# Altium integrated library Linear Technology Power Management PMIC Multifunction.IntLib: 360 symbols (part 38 of 42)
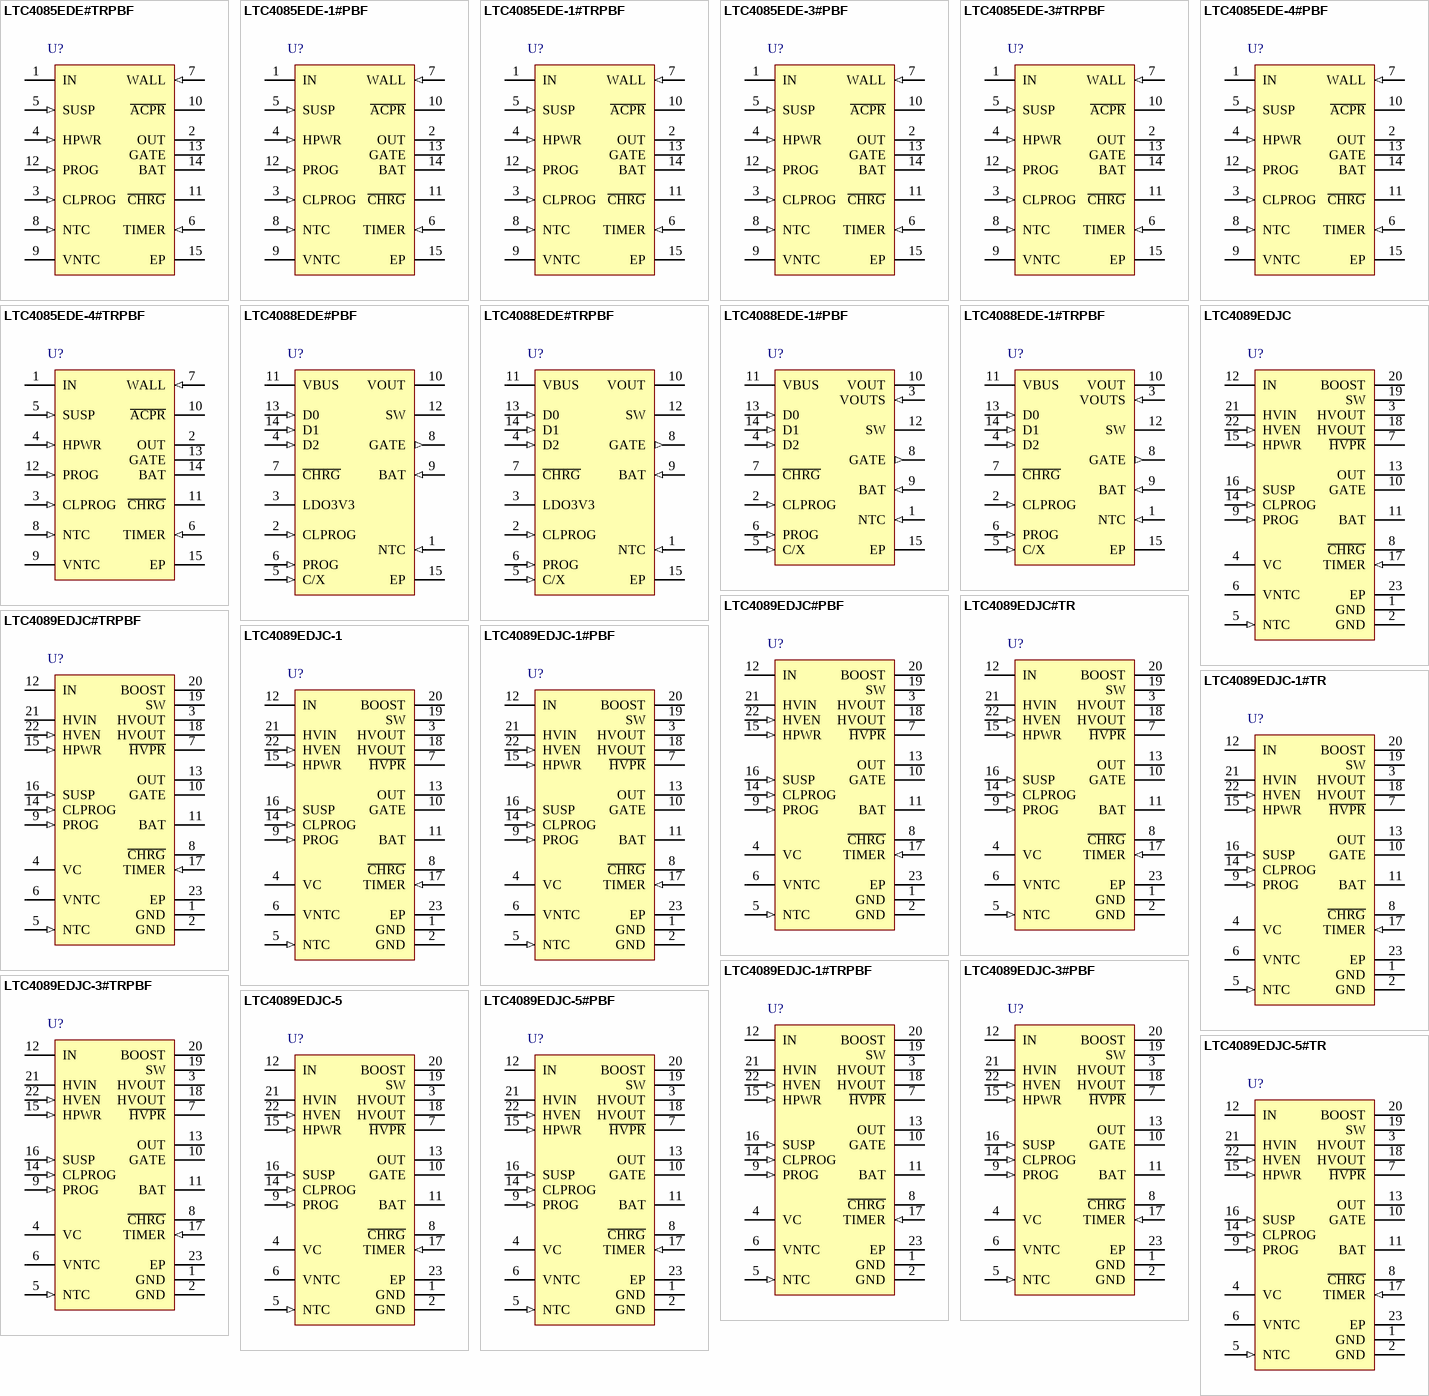
[diagram p55: symbols LTC4085EDE#TRPBF to LTC4089EDJC-5#TR]

## LTC4085EDE-4#PBF
designator U?
USB Power Manager with Ideal Diode Controller and 3.95 V Li-Ion Charger, 32.6% Vvntc, No Undervoltage Current Limit, 4.35 to 5.5 V Vin, 14-pin SON (DE-14), -40 to 85 degC, Pb-Free; Manufacturer: Linear Technology; PartNumber: LTC4085EDE-4#PBF; Number of Cells: 1; Vin Max(V): 5.5; Vin Min(V): 4.35; DatasheetVersion: Rev. B; PackageVersion: Rev. B, 06/2010; PackageReference: DE-14; PackageDescription: 14-Pin Plastic DFN, Body 4 x 3 mm, Pitch 0.5 mm; Supplier 1: Digi-Key; Supplier Part Number 1: LTC4085EDE-4#PBF-ND; Number of Outputs: 1; RoHS: TRUE; Mounting Technology: Surface Mount; Code_JEDEC: MO-229; ComponentLink1Description: Manufacturer URL; ComponentLink1URL: http://www.linear.com/; ComponentLink2Description: Datasheet; ComponentLink2URL: http://cds.linear.com/docs/en/datasheet/408534fb.pdf; ComponentLink3Description: Package Specification; ComponentLink3URL: http://www.linear.com/docs/en/packaging/DFN_14_05-08-1708.pdf
footprint LT-DE-14_V (SON, 14-Leads, Body 4x3mm, Pitch 0.5mm, Thermal Pad 3.3x1.7mm)
pins: 1 IN (power) "Input Supply. Connect to USB supply, VBUS. Input current to this pin is limited to either 20% or 100%  of the current programmed by the CLPROG pin as determined by the state of the HPWR pin. Charge current (to  BAT pin) (See Datasheet)", 2 OUT (power) "Voltage Output. This pin is used to provide  controlled power to a USB device from either USB VBUS (IN) or the battery (BAT) when the USB is not present. This  pin can also be used as an input for battery charging when  the (See Datasheet)", 3 CLPROG (in) "Current Limit Program and Input Current Monitor. Connecting a resistor, RCLPROG, to ground  programs the input to output current limit.", 4 HPWR (in) "High Power Select. This logic input is used  to control the input current limit. A voltage greater than  1.2V on the pin will set the input current limit to 100% of  the current programmed by the CLPROG pin. A voltage  less (See Datasheet)", 5 SUSP (in) "Suspend Mode Input. Pulling this pin above  1.2V will disable the power path from IN to OUT. The supply current from IN will be reduced to comply with the  USB specfication for suspend mode. Both the ability to  charge the (See Datasheet)", 6 TIMER (in) "Timer Capacitor. Placing a capacitor, CTIMER,  to GND sets the timer period.", 7 WALL (in) "Wall Adapter Present Input. Pulling this pin above 4.25V will disconnect the power path from IN to OUT. The A\C\P\R\ pin will also be pulled low to indicate that a wall adapter has been detected.", 8 NTC (in) "Input to the NTC Thermistor Monitoring Circuits. The NTC pin connects to a negative temperature coeffcient thermistor which is typically co-packaged with the battery pack to determine if the battery is too hot or too cold to (See Datasheet)", 9 VNTC "Output Bias Voltage for NTC. A resistor from this pin to the NTC pin will bias the NTC thermistor.", 10 ~{ACPR} (hiz) "Wall Adapter Present Output. Active low  open drain output pin. A low on this pin indicates that the wall adapter input comparator has had its input pulled above the input threshold. This feature is disabled if no power is (See Datasheet)", 11 ~{CHRG} (hiz) "Open-Drain Charge Status Output. When the battery is being charged, the C\H\R\G\ pin is pulled low by an internal N-channel MOSFET. When the timer runs out or the charge current drops below 10% of the programmed charge (See Datasheet)", 12 PROG (in) "Charge Current Program. Connecting a resistor, RPROG, to ground programs the battery charge  current.", 13 GATE (hiz) "External Ideal Diode Gate Pin. This pin can be used to drive the gate of an optional external  PFET connected between BAT and OUT. By doing so, the impedance of the ideal diode between BAT and OUT can be reduced. When not in (See Datasheet)", 14 BAT (power) "Connect to a single cell Li-Ion battery. This  pin is used as an output when charging the battery and as an input when supplying power to OUT. When the OUT pin potential drops below the BAT pin potential, an ideal diode (See Datasheet)", 15 EP (power) "Ground. The exposed package pad is electrical ground and must be soldered to the PC board for proper functionality and rated thermal performance."

## LTC4085EDE-4#TRPBF
designator U?
USB Power Manager with Ideal Diode Controller and 3.95 V Li-Ion Charger, 32.6% Vvntc, No Undervoltage Current Limit, 4.35 to 5.5 V Vin, 14-pin SON (DE-14), -40 to 85 degC, Pb-Free, Tape and Reel; Manufacturer: Linear Technology; PartNumber: LTC4085EDE-4#TRPBF; Number of Cells: 1; Vin Max(V): 5.5; Vin Min(V): 4.35; DatasheetVersion: Rev. B; PackageVersion: Rev. B, 06/2010; PackageReference: DE-14; PackageDescription: 14-Pin Plastic DFN, Body 4 x 3 mm, Pitch 0.5 mm; Supplier 1: Digi-Key; Supplier Part Number 1: LTC4085EDE-4#TRPBF-ND; Number of Outputs: 1; Packing: Tape and Reel; RoHS: TRUE; Mounting Technology: Surface Mount; Code_JEDEC: MO-229; ComponentLink1Description: Manufacturer URL; ComponentLink1URL: http://www.linear.com/; ComponentLink2Description: Datasheet; ComponentLink2URL: http://cds.linear.com/docs/en/datasheet/408534fb.pdf; ComponentLink3Description: Package Specification; ComponentLink3URL: http://www.linear.com/docs/en/packaging/DFN_14_05-08-1708.pdf
footprint LT-DE-14_V (SON, 14-Leads, Body 4x3mm, Pitch 0.5mm, Thermal Pad 3.3x1.7mm)
pins: 1 IN (power) "Input Supply. Connect to USB supply, VBUS. Input current to this pin is limited to either 20% or 100%  of the current programmed by the CLPROG pin as determined by the state of the HPWR pin. Charge current (to  BAT pin) (See Datasheet)", 2 OUT (power) "Voltage Output. This pin is used to provide  controlled power to a USB device from either USB VBUS (IN) or the battery (BAT) when the USB is not present. This  pin can also be used as an input for battery charging when  the (See Datasheet)", 3 CLPROG (in) "Current Limit Program and Input Current Monitor. Connecting a resistor, RCLPROG, to ground  programs the input to output current limit.", 4 HPWR (in) "High Power Select. This logic input is used  to control the input current limit. A voltage greater than  1.2V on the pin will set the input current limit to 100% of  the current programmed by the CLPROG pin. A voltage  less (See Datasheet)", 5 SUSP (in) "Suspend Mode Input. Pulling this pin above  1.2V will disable the power path from IN to OUT. The supply current from IN will be reduced to comply with the  USB specfication for suspend mode. Both the ability to  charge the (See Datasheet)", 6 TIMER (in) "Timer Capacitor. Placing a capacitor, CTIMER,  to GND sets the timer period.", 7 WALL (in) "Wall Adapter Present Input. Pulling this pin above 4.25V will disconnect the power path from IN to OUT. The A\C\P\R\ pin will also be pulled low to indicate that a wall adapter has been detected.", 8 NTC (in) "Input to the NTC Thermistor Monitoring Circuits. The NTC pin connects to a negative temperature coeffcient thermistor which is typically co-packaged with the battery pack to determine if the battery is too hot or too cold to (See Datasheet)", 9 VNTC "Output Bias Voltage for NTC. A resistor from this pin to the NTC pin will bias the NTC thermistor.", 10 ~{ACPR} (hiz) "Wall Adapter Present Output. Active low  open drain output pin. A low on this pin indicates that the wall adapter input comparator has had its input pulled above the input threshold. This feature is disabled if no power is (See Datasheet)", 11 ~{CHRG} (hiz) "Open-Drain Charge Status Output. When the battery is being charged, the C\H\R\G\ pin is pulled low by an internal N-channel MOSFET. When the timer runs out or the charge current drops below 10% of the programmed charge (See Datasheet)", 12 PROG (in) "Charge Current Program. Connecting a resistor, RPROG, to ground programs the battery charge  current.", 13 GATE (hiz) "External Ideal Diode Gate Pin. This pin can be used to drive the gate of an optional external  PFET connected between BAT and OUT. By doing so, the impedance of the ideal diode between BAT and OUT can be reduced. When not in (See Datasheet)", 14 BAT (power) "Connect to a single cell Li-Ion battery. This  pin is used as an output when charging the battery and as an input when supplying power to OUT. When the OUT pin potential drops below the BAT pin potential, an ideal diode (See Datasheet)", 15 EP (power) "Ground. The exposed package pad is electrical ground and must be soldered to the PC board for proper functionality and rated thermal performance."

## LTC4088EDE#PBF
designator U?
High Efficiency Battery Charger / USB Power Manager, 4.25 to 5.5 V Vin, 14-pin SON (DE-14), -40 to 85 degC, Pb-Free; Manufacturer: Linear Technology; PartNumber: LTC4088EDE#PBF; Number of Cells: 1; Vin Max(V): 5.5; Vin Min(V): 4.25; DatasheetVersion: Rev. B; PackageVersion: Rev. B, 06/2010; PackageReference: DE-14; PackageDescription: 14-Pin Plastic DFN, Body 4 x 3 mm, Pitch 0.5 mm; Supplier 1: Digi-Key; Supplier Part Number 1: LTC4088EDE#PBF-ND; Supplier 2: Newark; Supplier Part Number 2: 58M0945; Number of Outputs: 1; RoHS: TRUE; Mounting Technology: Surface Mount; Code_JEDEC: MO-229; ComponentLink1Description: Manufacturer URL; ComponentLink1URL: http://www.linear.com/; ComponentLink2Description: Datasheet; ComponentLink2URL: http://cds.linear.com/docs/en/datasheet/4088fb.pdf; ComponentLink3Description: Package Specification; ComponentLink3URL: http://www.linear.com/docs/en/packaging/DFN_14_05-08-1708.pdf
footprint LT-DE-14_V (SON, 14-Leads, Body 4x3mm, Pitch 0.5mm, Thermal Pad 3.3x1.7mm)
pins: 1 NTC (in) "Input to the NTC Thermistor Monitoring Circuits. The NTC pin connects to a negative temperature coefficient thermistor which is typically co-packaged with the battery pack to determine if the battery is too hot or too cold (See Datasheet)", 2 CLPROG (in) "USB Current Limit Program and Monitor Pin. A 1% resistor from CLPROG to ground determines the upper limit of the current drawn from the VBUS pin. A precise fraction of the input current, hCLPROG, is sent to the CLPROG pin (See Datasheet)", 3 LDO3V3 (power) "LDO Output. The LDO3V3 pin provides a regulated, always-on 3.3V supply voltage. This pin gets its power from VOUT. It may be used for light loads such as a real-time clock or housekeeping microprocessor. A 1uF capacitor is (See Datasheet)", 4 D2 (in) "Mode Select Input Pin. D2, in combination with the D0 pin and D1 pin, controls the current limit and battery charger functions of the LTC4088 (see Table 1). This pin is pulled low by a weak current sink.", 5 C/X (in) "End of Charge Indication Program Pin. This pinis used to program the current level at which a completed charge cycle is indicated by the C\H\R\G\ pin.", 6 PROG (in) "Charge Current Program and Charge Current Monitor Pin. Connecting a 1% resistor from PROG to ground programs the charge current. If sufficient input power is available in constant-current mode, this pin servos to 1V. The (See Datasheet)", 7 ~{CHRG} (hiz) "Open-Drain Charge Status Output. The C\H\R\G\ pin indicates the status of the battery charger. Four possible states are represented by C\H\R\G\: charging, not charging (or float charge current less than programmed end of (See Datasheet)", 8 GATE (out) "Ideal Diode Amplifier Output. This pin controls the gate of an external P-channel MOSFET transistor used to supplement the internal ideal diode. The source of the P-channel MOSFET should be connected to VOUT and the drain (See Datasheet)", 9 BAT (in) "Single Cell Li-Ion Battery Pin. Depending on available power and load, a Li-Ion battery on BAT will either deliver system power to VOUT through the ideal diode or be charged from the battery charger", 10 VOUT (power) "Output voltage of the switching PowerPath controller and input voltage of the battery charger. The majority of the portable product should be powered from VOUT. The LTC4088 will partition the available power between the (See Datasheet)", 11 VBUS (power) "Input voltage for the switching PowerPath controller. VBUS will usually be connected to the USB port of a computer or a DC output wall adapter. VBUS should be bypassed with a low impedance multilayer ceramic capacitor.", 12 SW (power) "The SW pin delivers power from VBUS to VOUT via the step-down switching regulator. An inductor should be connected from SW to VOUT. See the Applications Information section for a discussion of inductance value and current (See Datasheet)", 13 D0 (in) "Mode Select Input Pin. D0, in combination with the D1 pin and the D2 pin, controls the current limit and battery charger functions of the LTC4088 (see Table 1). This pin is pulled low by a weak current sink.", 14 D1 (in) "Mode Select Input Pin. D1, in combination with the D0 pin and the D2 pin, controls the current limit and battery charger functions of the LTC4088 (see Table 1). This pin is pulled low by a weak current sink.", 15 EP (power) "GND. Must be soldered to the PCB to provide a low electrical and thermal impedance connection to ground."

## LTC4088EDE#TRPBF
designator U?
High Efficiency Battery Charger / USB Power Manager, 4.25 to 5.5 V Vin, 14-pin SON (DE-14), -40 to 85 degC, Pb-Free, Tape and Reel; Manufacturer: Linear Technology; PartNumber: LTC4088EDE#TRPBF; Number of Cells: 1; Vin Max(V): 5.5; Vin Min(V): 4.25; DatasheetVersion: Rev. B; PackageVersion: Rev. B, 06/2010; PackageReference: DE-14; PackageDescription: 14-Pin Plastic DFN, Body 4 x 3 mm, Pitch 0.5 mm; Supplier 1: Digi-Key; Supplier Part Number 1: LTC4088EDE#TRPBF-ND; Number of Outputs: 1; Packing: Tape and Reel; RoHS: TRUE; Mounting Technology: Surface Mount; Code_JEDEC: MO-229; ComponentLink1Description: Manufacturer URL; ComponentLink1URL: http://www.linear.com/; ComponentLink2Description: Datasheet; ComponentLink2URL: http://cds.linear.com/docs/en/datasheet/4088fb.pdf; ComponentLink3Description: Package Specification; ComponentLink3URL: http://www.linear.com/docs/en/packaging/DFN_14_05-08-1708.pdf
footprint LT-DE-14_V (SON, 14-Leads, Body 4x3mm, Pitch 0.5mm, Thermal Pad 3.3x1.7mm)
pins: 1 NTC (in) "Input to the NTC Thermistor Monitoring Circuits. The NTC pin connects to a negative temperature coefficient thermistor which is typically co-packaged with the battery pack to determine if the battery is too hot or too cold (See Datasheet)", 2 CLPROG (in) "USB Current Limit Program and Monitor Pin. A 1% resistor from CLPROG to ground determines the upper limit of the current drawn from the VBUS pin. A precise fraction of the input current, hCLPROG, is sent to the CLPROG pin (See Datasheet)", 3 LDO3V3 (power) "LDO Output. The LDO3V3 pin provides a regulated, always-on 3.3V supply voltage. This pin gets its power from VOUT. It may be used for light loads such as a real-time clock or housekeeping microprocessor. A 1uF capacitor is (See Datasheet)", 4 D2 (in) "Mode Select Input Pin. D2, in combination with the D0 pin and D1 pin, controls the current limit and battery charger functions of the LTC4088 (see Table 1). This pin is pulled low by a weak current sink.", 5 C/X (in) "End of Charge Indication Program Pin. This pinis used to program the current level at which a completed charge cycle is indicated by the C\H\R\G\ pin.", 6 PROG (in) "Charge Current Program and Charge Current Monitor Pin. Connecting a 1% resistor from PROG to ground programs the charge current. If sufficient input power is available in constant-current mode, this pin servos to 1V. The (See Datasheet)", 7 ~{CHRG} (hiz) "Open-Drain Charge Status Output. The C\H\R\G\ pin indicates the status of the battery charger. Four possible states are represented by C\H\R\G\: charging, not charging (or float charge current less than programmed end of (See Datasheet)", 8 GATE (out) "Ideal Diode Amplifier Output. This pin controls the gate of an external P-channel MOSFET transistor used to supplement the internal ideal diode. The source of the P-channel MOSFET should be connected to VOUT and the drain (See Datasheet)", 9 BAT (in) "Single Cell Li-Ion Battery Pin. Depending on available power and load, a Li-Ion battery on BAT will either deliver system power to VOUT through the ideal diode or be charged from the battery charger", 10 VOUT (power) "Output voltage of the switching PowerPath controller and input voltage of the battery charger. The majority of the portable product should be powered from VOUT. The LTC4088 will partition the available power between the (See Datasheet)", 11 VBUS (power) "Input voltage for the switching PowerPath controller. VBUS will usually be connected to the USB port of a computer or a DC output wall adapter. VBUS should be bypassed with a low impedance multilayer ceramic capacitor.", 12 SW (power) "The SW pin delivers power from VBUS to VOUT via the step-down switching regulator. An inductor should be connected from SW to VOUT. See the Applications Information section for a discussion of inductance value and current (See Datasheet)", 13 D0 (in) "Mode Select Input Pin. D0, in combination with the D1 pin and the D2 pin, controls the current limit and battery charger functions of the LTC4088 (see Table 1). This pin is pulled low by a weak current sink.", 14 D1 (in) "Mode Select Input Pin. D1, in combination with the D0 pin and the D2 pin, controls the current limit and battery charger functions of the LTC4088 (see Table 1). This pin is pulled low by a weak current sink.", 15 EP (power) "GND. Must be soldered to the PCB to provide a low electrical and thermal impedance connection to ground."

## LTC4088EDE-1#PBF
designator U?
High Efficiency Battery Charger / USB Power Manager with Regulated Output Voltage, 4.25 to 5.5 V Vin, 14-pin SON (DE-14), -40 to 85 degC, Pb-Free; Manufacturer: Linear Technology; PartNumber: LTC4088EDE-1#PBF; Number of Cells: 1; Vin Max(V): 5.5; Vin Min(V): 4.25; DatasheetVersion: Rev. C; PackageVersion: Rev. B, 06/2010; PackageReference: DE-14; PackageDescription: 14-Pin Plastic DFN, Body 4 x 3 mm, Pitch 0.5 mm; Supplier 1: Digi-Key; Supplier Part Number 1: LTC4088EDE-1#PBF-ND; Number of Outputs: 1; RoHS: TRUE; Mounting Technology: Surface Mount; Code_JEDEC: MO-229; ComponentLink1Description: Manufacturer URL; ComponentLink1URL: http://www.linear.com/; ComponentLink2Description: Datasheet; ComponentLink2URL: http://cds.linear.com/docs/en/datasheet/408812fc.pdf; ComponentLink3Description: Package Specification; ComponentLink3URL: http://www.linear.com/docs/en/packaging/DFN_14_05-08-1708.pdf
footprint LT-DE-14_V (SON, 14-Leads, Body 4x3mm, Pitch 0.5mm, Thermal Pad 3.3x1.7mm)
pins: 1 NTC (in) "Input to the NTC Thermistor Monitoring Circuits. The NTC pin connects to a negative temperature coefficient thermistor which is typically co-packaged with the battery pack to determine if the battery is too hot or too cold (See Datasheet)", 2 CLPROG (in) "USB Current Limit Program and Monitor Pin. A 1% resistor from CLPROG to ground determines the upper limit of the current drawn from the VBUS pin. A precise fraction of the input current, hCLPROG, is sent to the CLPROG pin (See Datasheet)", 3 VOUTS (in) "Output Voltage Sense. The VOUTS pin is used to sense the voltage at VOUT when the PowerPathswitching regulator is in operation. VOUTS should always be connected directly to VOUT.", 4 D2 (in) "Mode Select Input Pin. D2, in combination with the D0 pin and D1 pin, controls the current limit and battery charger functions of the LTC4088-1/LTC4088-2. The LTC4088-1 and LTC4088-2 differ only in the functionality of the (See Datasheet)", 5 C/X (in) "End of Charge Indication Program Pin. This pinis used to program the current level at which a completed charge cycle is indicated by the C\H\R\G\ pin.", 6 PROG (in) "Charge Current Program and Charge Current Monitor Pin. Connecting a 1% resistor from PROG to ground programs the charge current. If sufficient input power is available in constant-current mode, this pin servos to 1V. The (See Datasheet)", 7 ~{CHRG} (hiz) "Open-Drain Charge Status Output. The C\H\R\G\ pin indicates the status of the battery charger. Four possible states are represented by C\H\R\G\: charging, not charging (or float charge current less than programmed end of (See Datasheet)", 8 GATE (out) "Ideal Diode Amplifier Output. This pin controls the gate of an external P-channel MOSFET transistor used to supplement the internal ideal diode. The source of the P-channel MOSFET should be connected to VOUT and the drain (See Datasheet)", 9 BAT (in) "Single Cell Li-Ion Battery Pin. Depending on available power and load, a Li-Ion battery on BAT will either deliver system power to VOUT through the ideal diode or be charged from the battery charger", 10 VOUT (power) "Output voltage of the switching PowerPath controller and input voltage of the battery charger. The majority of the portable product should be powered from VOUT. The LTC4088-1/LTC4088-2 will partition the available power (See Datasheet)", 11 VBUS (power) "Input voltage for the switching PowerPath controller. VBUS will usually be connected to the USB port of a computer or a DC output wall adapter. VBUS should be bypassed with a low impedance multilayer ceramic capacitor.", 12 SW (power) "The SW pin delivers power from VBUS to VOUT via the step-down switching regulator. An inductor should be connected from SW to VOUT. See the Applications Information section for a discussion of inductance value and current (See Datasheet)", 13 D0 (in) "Mode Select Input Pin. D0, in combination with the D1 pin and the D2 pin, controls the current limit and battery charger functions of the LTC4088-1/ LTC4088-2 (see Table 1). This pin is pulled low by a weak current sink.", 14 D1 (in) "Mode Select Input Pin. D1, in combination with the D0 pin and the D2 pin, controls the current limit and battery charger functions of the LTC4088-1/ LTC4088-2 (see Table 1). This pin is pulled low by a weak current sink.", 15 EP (power) "GND. Must be soldered to the PCB to provide a low electrical and thermal impedance connection to ground."

## LTC4088EDE-1#TRPBF
designator U?
High Efficiency Battery Charger / USB Power Manager with Regulated Output Voltage, 4.25 to 5.5 V Vin, 14-pin SON (DE-14), -40 to 85 degC, Pb-Free, Tape and Reel; Manufacturer: Linear Technology; PartNumber: LTC4088EDE-1#TRPBF; Number of Cells: 1; Vin Max(V): 5.5; Vin Min(V): 4.25; DatasheetVersion: Rev. C; PackageVersion: Rev. B, 06/2010; PackageReference: DE-14; PackageDescription: 14-Pin Plastic DFN, Body 4 x 3 mm, Pitch 0.5 mm; Supplier 1: Digi-Key; Supplier Part Number 1: LTC4088EDE-1#TRPBF-ND; Number of Outputs: 1; Packing: Tape and Reel; RoHS: TRUE; Mounting Technology: Surface Mount; Code_JEDEC: MO-229; ComponentLink1Description: Manufacturer URL; ComponentLink1URL: http://www.linear.com/; ComponentLink2Description: Datasheet; ComponentLink2URL: http://cds.linear.com/docs/en/datasheet/408812fc.pdf; ComponentLink3Description: Package Specification; ComponentLink3URL: http://www.linear.com/docs/en/packaging/DFN_14_05-08-1708.pdf
footprint LT-DE-14_V (SON, 14-Leads, Body 4x3mm, Pitch 0.5mm, Thermal Pad 3.3x1.7mm)
pins: 1 NTC (in) "Input to the NTC Thermistor Monitoring Circuits. The NTC pin connects to a negative temperature coefficient thermistor which is typically co-packaged with the battery pack to determine if the battery is too hot or too cold (See Datasheet)", 2 CLPROG (in) "USB Current Limit Program and Monitor Pin. A 1% resistor from CLPROG to ground determines the upper limit of the current drawn from the VBUS pin. A precise fraction of the input current, hCLPROG, is sent to the CLPROG pin (See Datasheet)", 3 VOUTS (in) "Output Voltage Sense. The VOUTS pin is used to sense the voltage at VOUT when the PowerPathswitching regulator is in operation. VOUTS should always be connected directly to VOUT.", 4 D2 (in) "Mode Select Input Pin. D2, in combination with the D0 pin and D1 pin, controls the current limit and battery charger functions of the LTC4088-1/LTC4088-2. The LTC4088-1 and LTC4088-2 differ only in the functionality of the (See Datasheet)", 5 C/X (in) "End of Charge Indication Program Pin. This pinis used to program the current level at which a completed charge cycle is indicated by the C\H\R\G\ pin.", 6 PROG (in) "Charge Current Program and Charge Current Monitor Pin. Connecting a 1% resistor from PROG to ground programs the charge current. If sufficient input power is available in constant-current mode, this pin servos to 1V. The (See Datasheet)", 7 ~{CHRG} (hiz) "Open-Drain Charge Status Output. The C\H\R\G\ pin indicates the status of the battery charger. Four possible states are represented by C\H\R\G\: charging, not charging (or float charge current less than programmed end of (See Datasheet)", 8 GATE (out) "Ideal Diode Amplifier Output. This pin controls the gate of an external P-channel MOSFET transistor used to supplement the internal ideal diode. The source of the P-channel MOSFET should be connected to VOUT and the drain (See Datasheet)", 9 BAT (in) "Single Cell Li-Ion Battery Pin. Depending on available power and load, a Li-Ion battery on BAT will either deliver system power to VOUT through the ideal diode or be charged from the battery charger", 10 VOUT (power) "Output voltage of the switching PowerPath controller and input voltage of the battery charger. The majority of the portable product should be powered from VOUT. The LTC4088-1/LTC4088-2 will partition the available power (See Datasheet)", 11 VBUS (power) "Input voltage for the switching PowerPath controller. VBUS will usually be connected to the USB port of a computer or a DC output wall adapter. VBUS should be bypassed with a low impedance multilayer ceramic capacitor.", 12 SW (power) "The SW pin delivers power from VBUS to VOUT via the step-down switching regulator. An inductor should be connected from SW to VOUT. See the Applications Information section for a discussion of inductance value and current (See Datasheet)", 13 D0 (in) "Mode Select Input Pin. D0, in combination with the D1 pin and the D2 pin, controls the current limit and battery charger functions of the LTC4088-1/ LTC4088-2 (see Table 1). This pin is pulled low by a weak current sink.", 14 D1 (in) "Mode Select Input Pin. D1, in combination with the D0 pin and the D2 pin, controls the current limit and battery charger functions of the LTC4088-1/ LTC4088-2 (see Table 1). This pin is pulled low by a weak current sink.", 15 EP (power) "GND. Must be soldered to the PCB to provide a low electrical and thermal impedance connection to ground."

## LTC4089EDJC
designator U?
USB Power Manager with High Voltage Switching Charger, 6 to 36 V Vin, 22-pin SON (DJC-22), -40 to 85 degC; Manufacturer: Linear Technology; PartNumber: LTC4089EDJC; Number of Cells: 1; DatasheetVersion: Rev. C; PackageVersion: Jun-10; PackageReference: DJC22; PackageDescription: 22-Pin Plastic DFN, Body 6 x 3 mm, Pitch 0.5 mm; Number of Outputs: 1; RoHS: FALSE; Mounting Technology: Surface Mount; Code_JEDEC: MO-229; ComponentLink1Description: Manufacturer URL; ComponentLink1URL: http://www.linear.com/; ComponentLink2Description: Datasheet; ComponentLink2URL: http://cds.linear.com/docs/en/datasheet/40895fc.pdf; ComponentLink3Description: Package Specification; ComponentLink3URL: http://www.linear.com/docs/en/packaging/DFN_22_05-08-1714.pdf
footprint LT-DJC-22_V (SON, 22-Leads, Body 6x3mm, Pitch 0.5mm, Thermal Pad 5.35x1.65mm)
pins: 1 GND (power), 2 GND (power), 3 HVOUT (power), 4 VC, 5 NTC (in), 6 VNTC "Output Bias Voltage for NTC. A resistor from this pin to the NTC pin will bias the NTC thermistor.", 7 ~{HVPR} (oc), 8 ~{CHRG} (hiz) "Open-Drain Charge Status Output. When the battery is being charged, the C\H\R\G\ pin is pulled low by an internal N-channel MOSFET. When the timer runs out or the charge current drops below 10% of the programmed charge (See Datasheet)", 9 PROG (in), 10 GATE (hiz), 11 BAT (power), 12 IN (power) "Input Supply. Connect to USB supply, VBUS. Input current to this pin is limited to either 20% or 100% of the current programmed by the CLPROG pin as determined by the state of the HPWR pin. Charge current (to the BAT pin) (See Datasheet)", 13 OUT (power) "Voltage Output. This pin is used to provide controlled power to a USB device from either USB VBUS (IN), an external high voltage supply (HVIN), or the battery (BAT) when no other supply is present. The high voltage supply is (See Datasheet)", 14 CLPROG (in), 15 HPWR (in) "High Power Select. This logic input is used to control the input current limit. A voltage greater than 2.3V on the pin will set the input current limit to 100% of the current programmed by the CLPROG pin. A voltage less than (See Datasheet)", 16 SUSP (in), 17 TIMER (in), 18 HVOUT (power), 19 SW (power) "The SW pin is the output of the internal high voltage power switch. Connect this pin to the inductor, catch diode and boost capacitor.", 20 BOOST "The BOOST pin is used to provide a drive voltage, higher than the input voltage, to the internal bipolar NPN power switch.", 21 HVIN (power) "The HVIN pin supplies current to the internal high voltage regulator and to the internal high voltage power switch. The presence of a high voltage input takes priority over the USB VBUS input (i.e., when a high voltage input (See Datasheet)", 22 HVEN (in) "The HVEN pin is used to disable the high voltage input path. Tie to ground to disable the high voltage input or tie to at least 2.3V to enable the high voltage path. If this feature is not used, tie to the HVIN pin. This pin (See Datasheet)", 23 EP (power)

## LTC4089EDJC#PBF
designator U?
USB Power Manager with High Voltage Switching Charger, 6 to 36 V Vin, 22-pin SON (DJC-22), -40 to 85 degC, Pb-Free; Manufacturer: Linear Technology; PartNumber: LTC4089EDJC#PBF; Number of Cells: 1; Vin Max(V): 36; Vin Min(V): 6; DatasheetVersion: Rev. C; PackageVersion: Jun-10; PackageReference: DJC22; PackageDescription: 22-Pin Plastic DFN, Body 6 x 3 mm, Pitch 0.5 mm; Supplier 1: Digi-Key; Supplier Part Number 1: LTC4089EDJC#PBF-ND; Supplier 2: Farnell; Supplier Part Number 2: 2295379; Supplier 3: Newark; Supplier Part Number 3: 56M8722; Number of Outputs: 1; RoHS: TRUE; Mounting Technology: Surface Mount; Code_JEDEC: MO-229; ComponentLink1Description: Manufacturer URL; ComponentLink1URL: http://www.linear.com/; ComponentLink2Description: Datasheet; ComponentLink2URL: http://cds.linear.com/docs/en/datasheet/40895fc.pdf; ComponentLink3Description: Package Specification; ComponentLink3URL: http://www.linear.com/docs/en/packaging/DFN_22_05-08-1714.pdf
footprint LT-DJC-22_V (SON, 22-Leads, Body 6x3mm, Pitch 0.5mm, Thermal Pad 5.35x1.65mm)
pins: 1 GND (power), 2 GND (power), 3 HVOUT (power), 4 VC, 5 NTC (in), 6 VNTC "Output Bias Voltage for NTC. A resistor from this pin to the NTC pin will bias the NTC thermistor.", 7 ~{HVPR} (oc), 8 ~{CHRG} (hiz) "Open-Drain Charge Status Output. When the battery is being charged, the C\H\R\G\ pin is pulled low by an internal N-channel MOSFET. When the timer runs out or the charge current drops below 10% of the programmed charge (See Datasheet)", 9 PROG (in), 10 GATE (hiz), 11 BAT (power), 12 IN (power) "Input Supply. Connect to USB supply, VBUS. Input current to this pin is limited to either 20% or 100% of the current programmed by the CLPROG pin as determined by the state of the HPWR pin. Charge current (to the BAT pin) (See Datasheet)", 13 OUT (power) "Voltage Output. This pin is used to provide controlled power to a USB device from either USB VBUS (IN), an external high voltage supply (HVIN), or the battery (BAT) when no other supply is present. The high voltage supply is (See Datasheet)", 14 CLPROG (in), 15 HPWR (in) "High Power Select. This logic input is used to control the input current limit. A voltage greater than 2.3V on the pin will set the input current limit to 100% of the current programmed by the CLPROG pin. A voltage less than (See Datasheet)", 16 SUSP (in), 17 TIMER (in), 18 HVOUT (power), 19 SW (power) "The SW pin is the output of the internal high voltage power switch. Connect this pin to the inductor, catch diode and boost capacitor.", 20 BOOST "The BOOST pin is used to provide a drive voltage, higher than the input voltage, to the internal bipolar NPN power switch.", 21 HVIN (power) "The HVIN pin supplies current to the internal high voltage regulator and to the internal high voltage power switch. The presence of a high voltage input takes priority over the USB VBUS input (i.e., when a high voltage input (See Datasheet)", 22 HVEN (in) "The HVEN pin is used to disable the high voltage input path. Tie to ground to disable the high voltage input or tie to at least 2.3V to enable the high voltage path. If this feature is not used, tie to the HVIN pin. This pin (See Datasheet)", 23 EP (power)

## LTC4089EDJC#TR
designator U?
USB Power Manager with High Voltage Switching Charger, 6 to 36 V Vin, 22-pin SON (DJC-22), -40 to 85 degC, Tape and Reel; Manufacturer: Linear Technology; PartNumber: LTC4089EDJC#TR; Number of Cells: 1; DatasheetVersion: Rev. C; PackageVersion: Jun-10; PackageReference: DJC22; PackageDescription: 22-Pin Plastic DFN, Body 6 x 3 mm, Pitch 0.5 mm; Number of Outputs: 1; Packing: Tape and Reel; RoHS: FALSE; Mounting Technology: Surface Mount; Code_JEDEC: MO-229; ComponentLink1Description: Manufacturer URL; ComponentLink1URL: http://www.linear.com/; ComponentLink2Description: Datasheet; ComponentLink2URL: http://cds.linear.com/docs/en/datasheet/40895fc.pdf; ComponentLink3Description: Package Specification; ComponentLink3URL: http://www.linear.com/docs/en/packaging/DFN_22_05-08-1714.pdf
footprint LT-DJC-22_V (SON, 22-Leads, Body 6x3mm, Pitch 0.5mm, Thermal Pad 5.35x1.65mm)
pins: 1 GND (power), 2 GND (power), 3 HVOUT (power), 4 VC, 5 NTC (in), 6 VNTC "Output Bias Voltage for NTC. A resistor from this pin to the NTC pin will bias the NTC thermistor.", 7 ~{HVPR} (oc), 8 ~{CHRG} (hiz) "Open-Drain Charge Status Output. When the battery is being charged, the C\H\R\G\ pin is pulled low by an internal N-channel MOSFET. When the timer runs out or the charge current drops below 10% of the programmed charge (See Datasheet)", 9 PROG (in), 10 GATE (hiz), 11 BAT (power), 12 IN (power) "Input Supply. Connect to USB supply, VBUS. Input current to this pin is limited to either 20% or 100% of the current programmed by the CLPROG pin as determined by the state of the HPWR pin. Charge current (to the BAT pin) (See Datasheet)", 13 OUT (power) "Voltage Output. This pin is used to provide controlled power to a USB device from either USB VBUS (IN), an external high voltage supply (HVIN), or the battery (BAT) when no other supply is present. The high voltage supply is (See Datasheet)", 14 CLPROG (in), 15 HPWR (in) "High Power Select. This logic input is used to control the input current limit. A voltage greater than 2.3V on the pin will set the input current limit to 100% of the current programmed by the CLPROG pin. A voltage less than (See Datasheet)", 16 SUSP (in), 17 TIMER (in), 18 HVOUT (power), 19 SW (power) "The SW pin is the output of the internal high voltage power switch. Connect this pin to the inductor, catch diode and boost capacitor.", 20 BOOST "The BOOST pin is used to provide a drive voltage, higher than the input voltage, to the internal bipolar NPN power switch.", 21 HVIN (power) "The HVIN pin supplies current to the internal high voltage regulator and to the internal high voltage power switch. The presence of a high voltage input takes priority over the USB VBUS input (i.e., when a high voltage input (See Datasheet)", 22 HVEN (in) "The HVEN pin is used to disable the high voltage input path. Tie to ground to disable the high voltage input or tie to at least 2.3V to enable the high voltage path. If this feature is not used, tie to the HVIN pin. This pin (See Datasheet)", 23 EP (power)

## LTC4089EDJC#TRPBF
designator U?
USB Power Manager with High Voltage Switching Charger, 6 to 36 V Vin, 22-pin SON (DJC-22), -40 to 85 degC, Pb-Free, Tape and Reel; Manufacturer: Linear Technology; PartNumber: LTC4089EDJC#TRPBF; Number of Cells: 1; DatasheetVersion: Rev. C; PackageVersion: Jun-10; PackageReference: DJC22; PackageDescription: 22-Pin Plastic DFN, Body 6 x 3 mm, Pitch 0.5 mm; Supplier 1: Digi-Key; Supplier Part Number 1: LTC4089EDJC#TRPBF-ND; Supplier 2: Newark; Supplier Part Number 2: 56M8724; Number of Outputs: 1; Packing: Tape and Reel; RoHS: TRUE; Mounting Technology: Surface Mount; Code_JEDEC: MO-229; ComponentLink1Description: Manufacturer URL; ComponentLink1URL: http://www.linear.com/; ComponentLink2Description: Datasheet; ComponentLink2URL: http://cds.linear.com/docs/en/datasheet/40895fc.pdf; ComponentLink3Description: Package Specification; ComponentLink3URL: http://www.linear.com/docs/en/packaging/DFN_22_05-08-1714.pdf
footprint LT-DJC-22_V (SON, 22-Leads, Body 6x3mm, Pitch 0.5mm, Thermal Pad 5.35x1.65mm)
pins: 1 GND (power), 2 GND (power), 3 HVOUT (power), 4 VC, 5 NTC (in), 6 VNTC "Output Bias Voltage for NTC. A resistor from this pin to the NTC pin will bias the NTC thermistor.", 7 ~{HVPR} (oc), 8 ~{CHRG} (hiz) "Open-Drain Charge Status Output. When the battery is being charged, the C\H\R\G\ pin is pulled low by an internal N-channel MOSFET. When the timer runs out or the charge current drops below 10% of the programmed charge (See Datasheet)", 9 PROG (in), 10 GATE (hiz), 11 BAT (power), 12 IN (power) "Input Supply. Connect to USB supply, VBUS. Input current to this pin is limited to either 20% or 100% of the current programmed by the CLPROG pin as determined by the state of the HPWR pin. Charge current (to the BAT pin) (See Datasheet)", 13 OUT (power) "Voltage Output. This pin is used to provide controlled power to a USB device from either USB VBUS (IN), an external high voltage supply (HVIN), or the battery (BAT) when no other supply is present. The high voltage supply is (See Datasheet)", 14 CLPROG (in), 15 HPWR (in) "High Power Select. This logic input is used to control the input current limit. A voltage greater than 2.3V on the pin will set the input current limit to 100% of the current programmed by the CLPROG pin. A voltage less than (See Datasheet)", 16 SUSP (in), 17 TIMER (in), 18 HVOUT (power), 19 SW (power) "The SW pin is the output of the internal high voltage power switch. Connect this pin to the inductor, catch diode and boost capacitor.", 20 BOOST "The BOOST pin is used to provide a drive voltage, higher than the input voltage, to the internal bipolar NPN power switch.", 21 HVIN (power) "The HVIN pin supplies current to the internal high voltage regulator and to the internal high voltage power switch. The presence of a high voltage input takes priority over the USB VBUS input (i.e., when a high voltage input (See Datasheet)", 22 HVEN (in) "The HVEN pin is used to disable the high voltage input path. Tie to ground to disable the high voltage input or tie to at least 2.3V to enable the high voltage path. If this feature is not used, tie to the HVIN pin. This pin (See Datasheet)", 23 EP (power)

## LTC4089EDJC-1
designator U?
USB Power Manager with High Voltage Switching Charger, 6 to 36 V Vin, 22-pin SON (DJC-22), -40 to 85 degC; Manufacturer: Linear Technology; PartNumber: LTC4089EDJC-1; Number of Cells: 1; DatasheetVersion: Rev. A; PackageVersion: Jun-10; PackageReference: DJC22; PackageDescription: 22-Pin Plastic DFN, Body 6 x 3 mm, Pitch 0.5 mm; Number of Outputs: 1; RoHS: FALSE; Mounting Technology: Surface Mount; Code_JEDEC: MO-229; ComponentLink1Description: Manufacturer URL; ComponentLink1URL: http://www.linear.com/; ComponentLink2Description: Datasheet; ComponentLink2URL: http://cds.linear.com/docs/en/datasheet/40891fa.pdf; ComponentLink3Description: Package Specification; ComponentLink3URL: http://www.linear.com/docs/en/packaging/DFN_22_05-08-1714.pdf
footprint LT-DJC-22_V (SON, 22-Leads, Body 6x3mm, Pitch 0.5mm, Thermal Pad 5.35x1.65mm)
pins: 1 GND (power), 2 GND (power), 3 HVOUT (power), 4 VC, 5 NTC (in), 6 VNTC "Output Bias Voltage for NTC. A resistor from this pin to the NTC pin will bias the NTC thermistor.", 7 ~{HVPR} (oc), 8 ~{CHRG} (hiz) "Open-Drain Charge Status Output. When the battery is being charged, the C\H\R\G\ pin is pulled low by an internal N-channel MOSFET. When the timer runs out or the charge current drops below 10% of the programmed charge (See Datasheet)", 9 PROG (in), 10 GATE (hiz), 11 BAT (power), 12 IN (power) "Input Supply. Connect to USB supply, VBUS. Input current to this pin is limited to either 20% or 100% of the current programmed by the CLPROG pin as determined by the state of the HPWR pin. Charge current (to the BAT pin) (See Datasheet)", 13 OUT (power) "Voltage Output. This pin is used to provide controlled power to a USB device from either USB VBUS (IN), an external high voltage supply (HVIN), or the battery (BAT) when no other supply is present. The high voltage supply is (See Datasheet)", 14 CLPROG (in), 15 HPWR (in) "High Power Select. This logic input is used to control the input current limit. A voltage greater than 2.3V on the pin will set the input current limit to 100% of the current programmed by the CLPROG pin. A voltage less than (See Datasheet)", 16 SUSP (in), 17 TIMER (in), 18 HVOUT (power), 19 SW (power) "The SW pin is the output of the internal high voltage power switch. Connect this pin to the inductor, catch diode and boost capacitor.", 20 BOOST "The BOOST pin is used to provide a drive voltage, higher than the input voltage, to the internal bipolar NPN power switch.", 21 HVIN (power) "The HVIN pin supplies current to the internal high voltage regulator and to the internal high voltage power switch. The presence of a high voltage input takes priority over the USB VBUS input (i.e., when a high voltage input (See Datasheet)", 22 HVEN (in) "The HVEN pin is used to disable the high voltage input path. Tie to ground to disable the high voltage input or tie to at least 2.3V to enable the high voltage path. If this feature is not used, tie to the HVIN pin. This pin (See Datasheet)", 23 EP (power)

## LTC4089EDJC-1#PBF
designator U?
USB Power Manager with High Voltage Switching Charger, 6 to 36 V Vin, 22-pin SON (DJC-22), -40 to 85 degC, Pb-Free; Manufacturer: Linear Technology; PartNumber: LTC4089EDJC-1#PBF; Number of Cells: 1; DatasheetVersion: Rev. A; PackageVersion: Jun-10; PackageReference: DJC22; PackageDescription: 22-Pin Plastic DFN, Body 6 x 3 mm, Pitch 0.5 mm; Supplier 1: Digi-Key; Supplier Part Number 1: LTC4089EDJC-1#PBF-ND; Number of Outputs: 1; RoHS: TRUE; Mounting Technology: Surface Mount; Code_JEDEC: MO-229; ComponentLink1Description: Manufacturer URL; ComponentLink1URL: http://www.linear.com/; ComponentLink2Description: Datasheet; ComponentLink2URL: http://cds.linear.com/docs/en/datasheet/40891fa.pdf; ComponentLink3Description: Package Specification; ComponentLink3URL: http://www.linear.com/docs/en/packaging/DFN_22_05-08-1714.pdf
footprint LT-DJC-22_V (SON, 22-Leads, Body 6x3mm, Pitch 0.5mm, Thermal Pad 5.35x1.65mm)
pins: 1 GND (power), 2 GND (power), 3 HVOUT (power), 4 VC, 5 NTC (in), 6 VNTC "Output Bias Voltage for NTC. A resistor from this pin to the NTC pin will bias the NTC thermistor.", 7 ~{HVPR} (oc), 8 ~{CHRG} (hiz) "Open-Drain Charge Status Output. When the battery is being charged, the C\H\R\G\ pin is pulled low by an internal N-channel MOSFET. When the timer runs out or the charge current drops below 10% of the programmed charge (See Datasheet)", 9 PROG (in), 10 GATE (hiz), 11 BAT (power), 12 IN (power) "Input Supply. Connect to USB supply, VBUS. Input current to this pin is limited to either 20% or 100% of the current programmed by the CLPROG pin as determined by the state of the HPWR pin. Charge current (to the BAT pin) (See Datasheet)", 13 OUT (power) "Voltage Output. This pin is used to provide controlled power to a USB device from either USB VBUS (IN), an external high voltage supply (HVIN), or the battery (BAT) when no other supply is present. The high voltage supply is (See Datasheet)", 14 CLPROG (in), 15 HPWR (in) "High Power Select. This logic input is used to control the input current limit. A voltage greater than 2.3V on the pin will set the input current limit to 100% of the current programmed by the CLPROG pin. A voltage less than (See Datasheet)", 16 SUSP (in), 17 TIMER (in), 18 HVOUT (power), 19 SW (power) "The SW pin is the output of the internal high voltage power switch. Connect this pin to the inductor, catch diode and boost capacitor.", 20 BOOST "The BOOST pin is used to provide a drive voltage, higher than the input voltage, to the internal bipolar NPN power switch.", 21 HVIN (power) "The HVIN pin supplies current to the internal high voltage regulator and to the internal high voltage power switch. The presence of a high voltage input takes priority over the USB VBUS input (i.e., when a high voltage input (See Datasheet)", 22 HVEN (in) "The HVEN pin is used to disable the high voltage input path. Tie to ground to disable the high voltage input or tie to at least 2.3V to enable the high voltage path. If this feature is not used, tie to the HVIN pin. This pin (See Datasheet)", 23 EP (power)

## LTC4089EDJC-1#TR
designator U?
USB Power Manager with High Voltage Switching Charger, 6 to 36 V Vin, 22-pin SON (DJC-22), -40 to 85 degC, Tape and Reel; Manufacturer: Linear Technology; PartNumber: LTC4089EDJC-1#TR; Number of Cells: 1; DatasheetVersion: Rev. A; PackageVersion: Jun-10; PackageReference: DJC22; PackageDescription: 22-Pin Plastic DFN, Body 6 x 3 mm, Pitch 0.5 mm; Number of Outputs: 1; Packing: Tape and Reel; RoHS: FALSE; Mounting Technology: Surface Mount; Code_JEDEC: MO-229; ComponentLink1Description: Manufacturer URL; ComponentLink1URL: http://www.linear.com/; ComponentLink2Description: Datasheet; ComponentLink2URL: http://cds.linear.com/docs/en/datasheet/40891fa.pdf; ComponentLink3Description: Package Specification; ComponentLink3URL: http://www.linear.com/docs/en/packaging/DFN_22_05-08-1714.pdf
footprint LT-DJC-22_V (SON, 22-Leads, Body 6x3mm, Pitch 0.5mm, Thermal Pad 5.35x1.65mm)
pins: 1 GND (power), 2 GND (power), 3 HVOUT (power), 4 VC, 5 NTC (in), 6 VNTC "Output Bias Voltage for NTC. A resistor from this pin to the NTC pin will bias the NTC thermistor.", 7 ~{HVPR} (oc), 8 ~{CHRG} (hiz) "Open-Drain Charge Status Output. When the battery is being charged, the C\H\R\G\ pin is pulled low by an internal N-channel MOSFET. When the timer runs out or the charge current drops below 10% of the programmed charge (See Datasheet)", 9 PROG (in), 10 GATE (hiz), 11 BAT (power), 12 IN (power) "Input Supply. Connect to USB supply, VBUS. Input current to this pin is limited to either 20% or 100% of the current programmed by the CLPROG pin as determined by the state of the HPWR pin. Charge current (to the BAT pin) (See Datasheet)", 13 OUT (power) "Voltage Output. This pin is used to provide controlled power to a USB device from either USB VBUS (IN), an external high voltage supply (HVIN), or the battery (BAT) when no other supply is present. The high voltage supply is (See Datasheet)", 14 CLPROG (in), 15 HPWR (in) "High Power Select. This logic input is used to control the input current limit. A voltage greater than 2.3V on the pin will set the input current limit to 100% of the current programmed by the CLPROG pin. A voltage less than (See Datasheet)", 16 SUSP (in), 17 TIMER (in), 18 HVOUT (power), 19 SW (power) "The SW pin is the output of the internal high voltage power switch. Connect this pin to the inductor, catch diode and boost capacitor.", 20 BOOST "The BOOST pin is used to provide a drive voltage, higher than the input voltage, to the internal bipolar NPN power switch.", 21 HVIN (power) "The HVIN pin supplies current to the internal high voltage regulator and to the internal high voltage power switch. The presence of a high voltage input takes priority over the USB VBUS input (i.e., when a high voltage input (See Datasheet)", 22 HVEN (in) "The HVEN pin is used to disable the high voltage input path. Tie to ground to disable the high voltage input or tie to at least 2.3V to enable the high voltage path. If this feature is not used, tie to the HVIN pin. This pin (See Datasheet)", 23 EP (power)